# Altium footprint library PLS_PLD.PcbLib: 14 footprints
Each footprint in its own frame and in the unit in brackets; x right, y up, seen from the top. Pads: shape width x height; smd on the part's side, far side on the other; paste and mask are expansions set on the pad; w line width, h text height; cw(c..) or ccw(c..) is an arc to the next point about the centre after c.
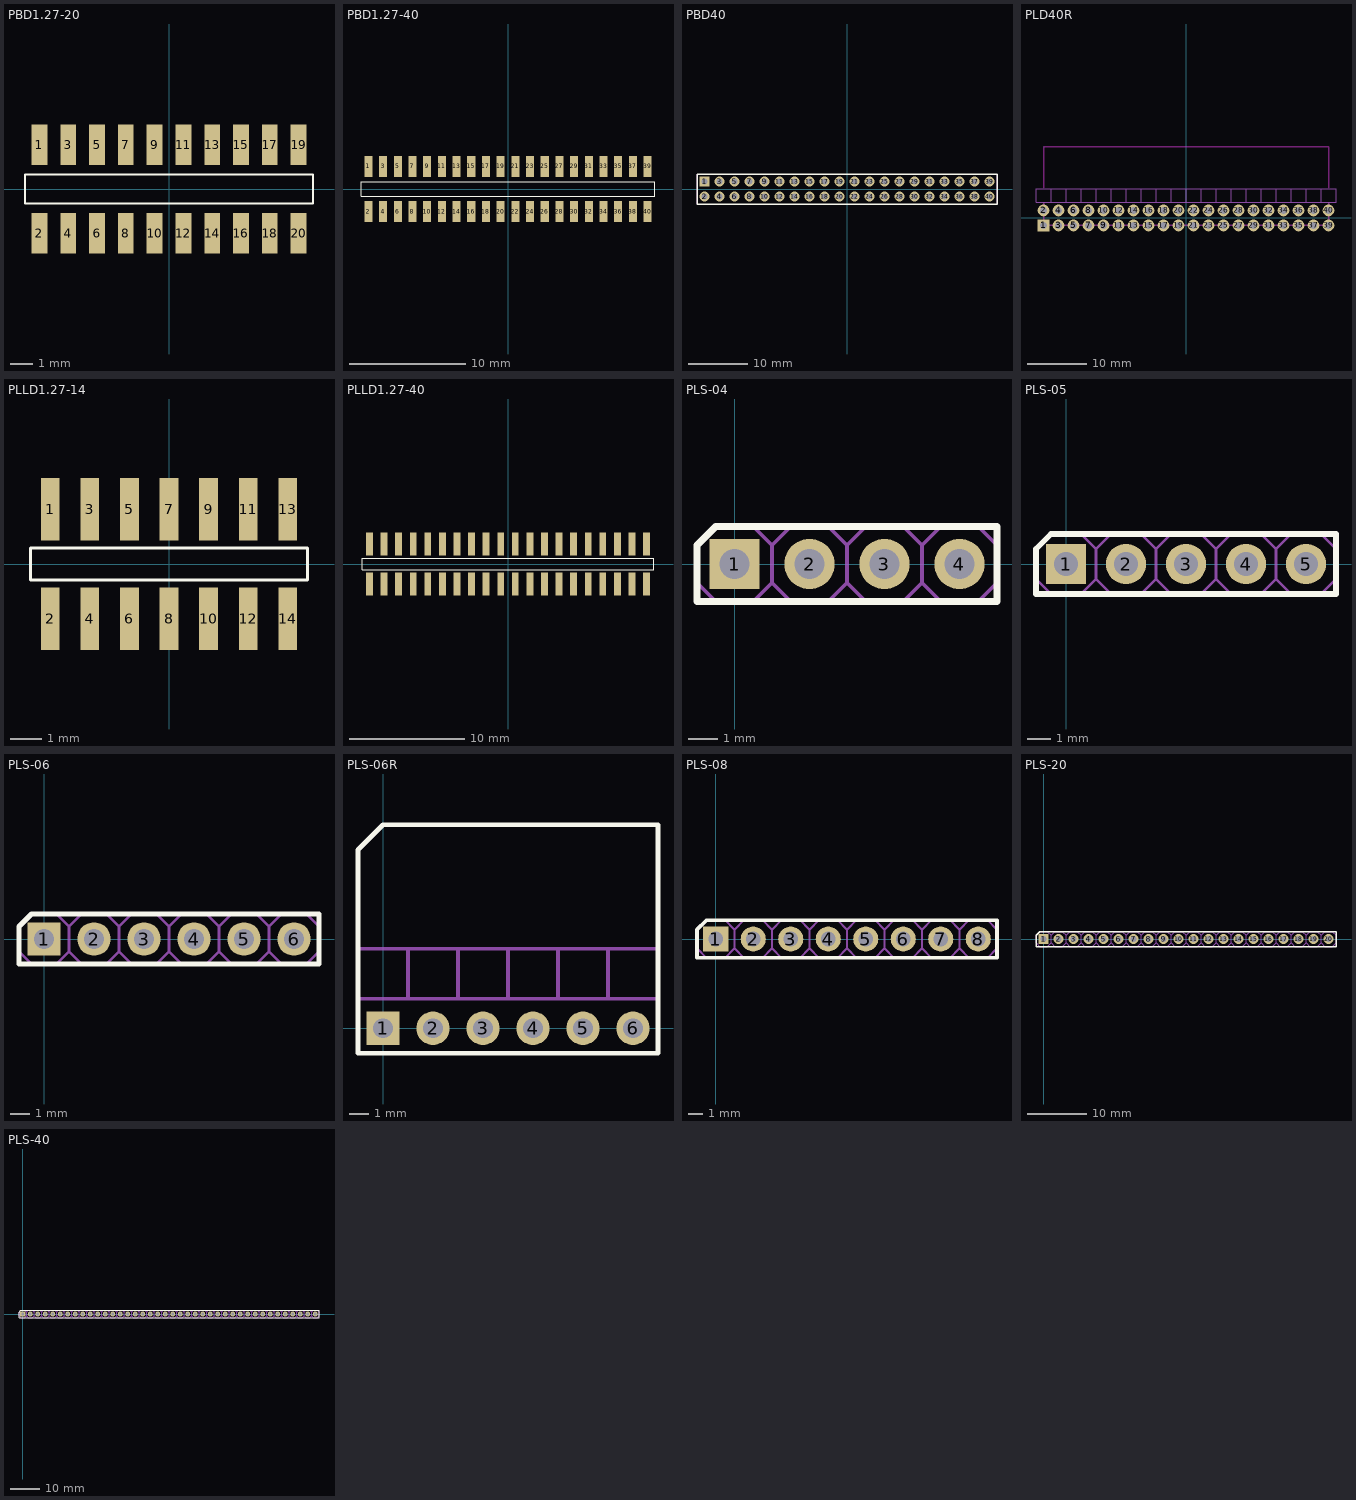
[diagram p0: the footprints below, top view; thin cyan lines are the x and y axes]

## PBD1.27-20 [mm] "PBD1.27-40"
pads (20):
  rect 0.7x1.8 smd: 1(-5.715,1.95) 2(-5.715,-1.95) 3(-4.445,1.95) 4(-4.445,-1.95) 5(-3.175,1.95) 6(-3.175,-1.95) 7(-1.905,1.95) 8(-1.905,-1.95) 9(-0.635,1.95) 10(-0.635,-1.95) 11(0.635,1.95) 12(0.635,-1.95) 13(1.905,1.95) 14(1.905,-1.95) 15(3.175,1.95) 16(3.175,-1.95) 17(4.445,1.95) 18(4.445,-1.95) 19(5.715,1.95) 20(5.715,-1.95)
Top Overlay:
  lines w0.1: -6.35,-0.635 6.35,-0.635 6.35,0.635 -6.35,0.635 -6.35,-0.635
3D body "User Library-PBD1_27-xx-S (2).step": height 4.51, standoff 0.01, extent -6.35,-2.5 6.35,2.5

## PBD1.27-40 [mm] "PBD1.27-40"
pads (40):
  rect 0.7x1.8 smd: 1(-12.065,1.95) 2(-12.065,-1.95) 3(-10.795,1.95) 4(-10.795,-1.95) 5(-9.525,1.95) 6(-9.525,-1.95) 7(-8.255,1.95) 8(-8.255,-1.95) 9(-6.985,1.95) 10(-6.985,-1.95) 11(-5.715,1.95) 12(-5.715,-1.95) 13(-4.445,1.95) 14(-4.445,-1.95) 15(-3.175,1.95) 16(-3.175,-1.95) 17(-1.905,1.95) 18(-1.905,-1.95) 19(-0.635,1.95) 20(-0.635,-1.95) 21(0.635,1.95) 22(0.635,-1.95) 23(1.905,1.95) 24(1.905,-1.95) 25(3.175,1.95) 26(3.175,-1.95) 27(4.445,1.95) 28(4.445,-1.95) 29(5.715,1.95) 30(5.715,-1.95) 31(6.985,1.95) 32(6.985,-1.95) 33(8.255,1.95) 34(8.255,-1.95) 35(9.525,1.95) 36(9.525,-1.95) 37(10.795,1.95) 38(10.795,-1.95) 39(12.065,1.95) 40(12.065,-1.95)
Top Overlay:
  lines w0.1: -12.7,-0.635 -12.7,0.635 12.7,0.635 12.7,-0.635 -12.7,-0.635
3D body "User Library-PBD1_27-xx-S (1).step": height 4.51, standoff 0.01, extent -12.7,-2.5 12.7,2.5

## PBD40 [mm]
pads (40):
  rect 1.7x1.7 hole 1: 1(-24.13,1.27)
  round 1.7 hole 1: 2(-24.13,-1.27) 3(-21.59,1.27) 4(-21.59,-1.27) 5(-19.05,1.27) 6(-19.05,-1.27) 7(-16.51,1.27) 8(-16.51,-1.27) 9(-13.97,1.27) 10(-13.97,-1.27) 11(-11.43,1.27) 12(-11.43,-1.27) 13(-8.89,1.27) 14(-8.89,-1.27) 15(-6.35,1.27) 16(-6.35,-1.27) 17(-3.81,1.27) 18(-3.81,-1.27) 19(-1.27,1.27) 20(-1.27,-1.27) 21(1.27,1.27) 22(1.27,-1.27) 23(3.81,1.27) 24(3.81,-1.27) 25(6.35,1.27) 26(6.35,-1.27) 27(8.89,1.27) 28(8.89,-1.27) 29(11.43,1.27) 30(11.43,-1.27) 31(13.97,1.27) 32(13.97,-1.27) 33(16.51,1.27) 34(16.51,-1.27) 35(19.05,1.27) 36(19.05,-1.27) 37(21.59,1.27) 38(21.59,-1.27) 39(24.13,1.27) 40(24.13,-1.27)
Top Overlay:
  lines w0.25: -25.4,-2.54 -25.4,2.54 25.4,2.54 25.4,-2.54 -25.4,-2.54
Mechanical 1:
  lines w0.13: -25.4,-2.54 25.4,-2.54 25.4,2.54 -25.4,2.54 -25.4,-2.54
  text "39" at 25.471,0.271 h1.22
  text "1" at -27.183,0.271 h1.22
  text "40" at 25.414,-2.269 h1.22
  text "2" at -27.326,-2.383 h1.22

## PCBComponent_1 [mm]

## PLD40R [mm]
pads (40):
  rect 2x2 hole 1.2: 1(-24.13,-1.27)
  round 2 hole 1.2: 2(-24.13,1.27) 3(-21.59,-1.27) 4(-21.59,1.27) 5(-19.05,-1.27) 6(-19.05,1.27) 7(-16.51,-1.27) 8(-16.51,1.27) 9(-13.97,-1.27) 10(-13.97,1.27) 11(-11.43,-1.27) 12(-11.43,1.27) 13(-8.89,-1.27) 14(-8.89,1.27) 15(-6.35,-1.27) 16(-6.35,1.27) 17(-3.81,-1.27) 18(-3.81,1.27) 19(-1.27,-1.27) 20(-1.27,1.27) 21(1.27,-1.27) 22(1.27,1.27) 23(3.81,-1.27) 24(3.81,1.27) 25(6.35,-1.27) 26(6.35,1.27) 27(8.89,-1.27) 28(8.89,1.27) 29(11.43,-1.27) 30(11.43,1.27) 31(13.97,-1.27) 32(13.97,1.27) 33(16.51,-1.27) 34(16.51,1.27) 35(19.05,-1.27) 36(19.05,1.27) 37(21.59,-1.27) 38(21.59,1.27) 39(24.13,-1.27) 40(24.13,1.27)
Top Layer keep-out:
  lines w0.254: -24.13,2.54 -24.13,-1.27 24.13,-1.27 24.13,2.54 ; -24.13,5.08 -24.13,12.065 24.13,12.065 24.13,5.08
Mechanical 1:
  lines w0.13: -22.86,2.67 -22.86,4.95 ; -20.32,2.67 -20.32,4.95 ; -17.78,2.67 -17.78,4.95 ; -15.24,2.67 -15.24,4.95 ; -12.7,2.67 -12.7,4.95 ; -10.16,2.67 -10.16,4.95 ; -7.62,2.67 -7.62,4.95 ; -5.08,2.67 -5.08,4.95 ; -2.54,2.67 -2.54,4.95 ; 0,2.67 0,4.95 ; 2.54,2.67 2.54,4.95 ; 5.08,2.67 5.08,4.95 ; 7.62,2.67 7.62,4.95 ; 10.16,2.67 10.16,4.95 ; 12.7,2.67 12.7,4.95 ; 15.24,2.67 15.24,4.95 ; 17.78,2.67 17.78,4.95 ; 20.32,2.67 20.32,4.95 ; 22.86,2.67 22.86,4.95 ; -25.4,2.67 -25.4,4.95 25.4,4.95 25.4,2.67 -25.4,2.67
  text "40" at 25.414,0.271 h1.22
  text "39" at 25.471,-2.269 h1.22
  text "2" at -27.326,0.157 h1.22
  text "1" at -27.183,-2.269 h1.22

## PLLD1.27-14 [mm] "PBD1.27-40"
pads (14):
  rect 0.6x2 smd: 1(-3.81,1.75) 2(-3.81,-1.75) 3(-2.54,1.75) 4(-2.54,-1.75) 5(-1.27,1.75) 6(-1.27,-1.75) 7(0,1.75) 8(0,-1.75) 9(1.27,1.75) 10(1.27,-1.75) 11(2.54,1.75) 12(2.54,-1.75) 13(3.81,1.75) 14(3.81,-1.75)
Top Overlay:
  lines w0.1: -4.445,-0.508 4.445,-0.508 4.445,0.508 -4.445,0.508 -4.445,-0.508
3D body "User Library-PLLD1_27-xx-S (1).step": height 3.91, standoff 0.01, extent -4.445,-2.5 4.445,2.5

## PLLD1.27-40 [mm] "PBD1.27-40"
pads (40):
  rect 0.6x2 smd: 1(-12.065,1.75) 2(-12.065,-1.75) 3(-10.795,1.75) 4(-10.795,-1.75) 5(-9.525,1.75) 6(-9.525,-1.75) 7(-8.255,1.75) 8(-8.255,-1.75) 9(-6.985,1.75) 10(-6.985,-1.75) 11(-5.715,1.75) 12(-5.715,-1.75) 13(-4.445,1.75) 14(-4.445,-1.75) 15(-3.175,1.75) 16(-3.175,-1.75) 17(-1.905,1.75) 18(-1.905,-1.75) 19(-0.635,1.75) 20(-0.635,-1.75) 21(0.635,1.75) 22(0.635,-1.75) 23(1.905,1.75) 24(1.905,-1.75) 25(3.175,1.75) 26(3.175,-1.75) 27(4.445,1.75) 28(4.445,-1.75) 29(5.715,1.75) 30(5.715,-1.75) 31(6.985,1.75) 32(6.985,-1.75) 33(8.255,1.75) 34(8.255,-1.75) 35(9.525,1.75) 36(9.525,-1.75) 37(10.795,1.75) 38(10.795,-1.75) 39(12.065,1.75) 40(12.065,-1.75)
Top Overlay:
  lines w0.1: -12.7,-0.508 -12.7,0.508 12.7,0.508 12.7,-0.508 -12.7,-0.508
3D body "User Library-PLLD1_27-xx-S.step": height 3.91, standoff 0.01, extent -12.7,-2.5 12.7,2.5

## PLS-04 [mm]
pads (4):
  rect 1.7x1.7 hole 1: 1(0,0)
  round 1.7 hole 1: 2(2.54,0) 3(5.08,0) 4(7.62,0)
Top Overlay:
  lines w0.25: -1.27,-1.27 -0.635,-1.27 8.89,-1.27 8.89,1.27 -0.635,1.27 -1.27,0.635 -1.27,-1.27
Mechanical 1:
  lines w0.13: 1.27,-0.635 1.905,-1.27 3.175,-1.27 3.81,-0.635 ; 1.27,-0.635 0.635,-1.27 -0.635,-1.27 -1.27,-0.635 -1.27,0.635 -0.635,1.27 0.635,1.27 1.27,0.635 ; 1.27,-0.635 1.27,0.635 ; 1.27,0.635 1.905,1.27 3.175,1.27 3.81,0.635 ; 3.81,-0.635 4.445,-1.27 5.715,-1.27 6.35,-0.635 ; 3.81,-0.635 3.81,0.635 ; 3.81,0.635 4.445,1.27 5.715,1.27 6.35,0.635 ; 6.35,-0.635 6.35,0.635 ; 6.35,-0.635 6.985,-1.27 8.255,-1.27 8.89,-0.635 8.89,0.635 8.255,1.27 6.985,1.27 6.35,0.635

## PLS-05 [mm]
pads (5):
  rect 1.7x1.7 hole 1: 1(0,0)
  round 1.7 hole 1: 2(2.54,0) 3(5.08,0) 4(7.62,0) 5(10.16,0)
Top Overlay:
  lines w0.25: -1.27,-1.27 -0.635,-1.27 11.43,-1.27 11.43,1.27 -0.635,1.27 -1.27,0.635 -1.27,-1.27
Mechanical 1:
  lines w0.13: 1.27,-0.635 1.905,-1.27 3.175,-1.27 3.81,-0.635 ; 1.27,-0.635 0.635,-1.27 -0.635,-1.27 -1.27,-0.635 -1.27,0.635 -0.635,1.27 0.635,1.27 1.27,0.635 ; 1.27,-0.635 1.27,0.635 ; 1.27,0.635 1.905,1.27 3.175,1.27 3.81,0.635 ; 3.81,-0.635 4.445,-1.27 5.715,-1.27 6.35,-0.635 ; 3.81,-0.635 3.81,0.635 ; 3.81,0.635 4.445,1.27 5.715,1.27 6.35,0.635 ; 6.35,-0.635 6.35,0.635 ; 6.35,-0.635 6.985,-1.27 8.255,-1.27 8.89,-0.635 ; 6.35,0.635 6.985,1.27 8.255,1.27 8.89,0.635 ; 8.89,-0.635 8.89,0.635 ; 8.89,-0.635 9.525,-1.27 10.795,-1.27 11.43,-0.635 11.43,0.635 10.795,1.27 9.525,1.27 8.89,0.635

## PLS-06 [mm]
height 8.54
pads (6):
  rect 1.7x1.7 hole 1: 1(0,0)
  round 1.7 hole 1: 2(2.54,0) 3(5.08,0) 4(7.62,0) 5(10.16,0) 6(12.7,0)
Top Overlay:
  lines w0.25: -1.27,-1.27 -1.27,0.635 -0.635,1.27 13.97,1.27 13.97,-1.27 -0.635,-1.27 -1.27,-1.27
Mechanical 1:
  lines w0.13: 1.27,-0.635 1.27,0.635 ; 1.27,-0.635 0.635,-1.27 -0.635,-1.27 -1.27,-0.635 -1.27,0.635 -0.635,1.27 0.635,1.27 1.27,0.635 ; 1.27,-0.635 1.905,-1.27 3.175,-1.27 3.81,-0.635 ; 1.27,0.635 1.905,1.27 3.175,1.27 3.81,0.635 ; 3.81,-0.635 3.81,0.635 ; 3.81,-0.635 4.445,-1.27 5.715,-1.27 6.35,-0.635 ; 3.81,0.635 4.445,1.27 5.715,1.27 6.35,0.635 ; 6.35,-0.635 6.985,-1.27 8.255,-1.27 8.89,-0.635 ; 6.35,-0.635 6.35,0.635 ; 6.35,0.635 6.985,1.27 8.255,1.27 8.89,0.635 ; 8.89,-0.635 9.525,-1.27 10.795,-1.27 11.43,-0.635 ; 8.89,-0.635 8.89,0.635 ; 8.89,0.635 9.525,1.27 10.795,1.27 11.43,0.635 ; 11.43,-0.635 11.43,0.635 ; 11.43,-0.635 12.065,-1.27 13.335,-1.27 13.97,-0.635 13.97,0.635 13.335,1.27 12.065,1.27 11.43,0.635
  text ".Designator" at 0,1.905 h1.5
  text ".Comment" at 0,-2.54 h1.5

## PLS-06R [mm]
height 2.54
pads (6):
  rect 1.7x1.7 hole 1: 1(0,0)
  round 1.7 hole 1: 2(2.54,0) 3(5.08,0) 4(7.62,0) 5(10.16,0) 6(12.7,0)
Top Overlay:
  lines w0.25: -1.27,-1.27 -0.635,-1.27 13.97,-1.27 13.97,10.34 0,10.34 -1.27,9.07 -1.27,-1.27
Mechanical 1:
  lines w0.2: 1.27,1.5 1.27,4.04 ; 3.81,1.5 3.81,4.04 ; 6.35,1.5 6.35,4.04 ; 8.89,1.5 8.89,4.04 ; 11.43,1.5 11.43,4.04 ; -1.27,1.5 -1.27,4.04 13.97,4.04 13.97,1.5 -1.27,1.5
  text ".Comment" at 0,-2.54 h1.5
  text ".Designator" at 0,4.445 h1.5

## PLS-08 [mm]
pads (8):
  rect 1.7x1.7 hole 1: 1(0,0)
  round 1.7 hole 1: 2(2.54,0) 3(5.08,0) 4(7.62,0) 5(10.16,0) 6(12.7,0) 7(15.24,0) 8(17.78,0)
Top Overlay:
  lines w0.25: -1.27,-1.27 -0.635,-1.27 19.05,-1.27 19.05,1.27 -0.635,1.27 -1.27,0.635 -1.27,-1.27
Mechanical 1:
  lines w0.13: 1.27,-0.635 1.905,-1.27 3.175,-1.27 3.81,-0.635 ; 1.27,-0.635 0.635,-1.27 -0.635,-1.27 -1.27,-0.635 -1.27,0.635 -0.635,1.27 0.635,1.27 1.27,0.635 ; 1.27,-0.635 1.27,0.635 ; 1.27,0.635 1.905,1.27 3.175,1.27 3.81,0.635 ; 3.81,-0.635 4.445,-1.27 5.715,-1.27 6.35,-0.635 ; 3.81,-0.635 3.81,0.635 ; 3.81,0.635 4.445,1.27 5.715,1.27 6.35,0.635 ; 6.35,-0.635 6.35,0.635 ; 6.35,-0.635 6.985,-1.27 8.255,-1.27 8.89,-0.635 ; 6.35,0.635 6.985,1.27 8.255,1.27 8.89,0.635 ; 8.89,-0.635 8.89,0.635 ; 8.89,-0.635 9.525,-1.27 10.795,-1.27 11.43,-0.635 ; 8.89,0.635 9.525,1.27 10.795,1.27 11.43,0.635 ; 11.43,-0.635 11.43,0.635 ; 11.43,-0.635 12.065,-1.27 13.335,-1.27 13.97,-0.635 ; 11.43,0.635 12.065,1.27 13.335,1.27 13.97,0.635 ; 13.97,-0.635 13.97,0.635 ; 13.97,-0.635 14.605,-1.27 15.875,-1.27 16.51,-0.635 ; 13.97,0.635 14.605,1.27 15.875,1.27 16.51,0.635 ; 16.51,-0.635 17.145,-1.27 18.415,-1.27 19.05,-0.635 19.05,0.635 18.415,1.27 17.145,1.27 16.51,0.635 ; 16.51,-0.635 16.51,0.635

## PLS-20 [mm]
pads (20):
  rect 1.7x1.7 hole 1: 1(0,0)
  round 1.7 hole 1: 2(2.54,0) 3(5.08,0) 4(7.62,0) 5(10.16,0) 6(12.7,0) 7(15.24,0) 8(17.78,0) 9(20.32,0) 10(22.86,0) 11(25.4,0) 12(27.94,0) 13(30.48,0) 14(33.02,0) 15(35.56,0) 16(38.1,0) 17(40.64,0) 18(43.18,0) 19(45.72,0) 20(48.26,0)
Top Overlay:
  lines w0.25: -1.27,-1.27 -1.27,0.635 -0.635,1.27 49.53,1.27 49.53,-1.27 -0.635,-1.27 -1.27,-1.27
Mechanical 1:
  lines w0.13: 1.27,-0.635 1.27,0.635 ; 1.27,-0.635 0.635,-1.27 -0.635,-1.27 -1.27,-0.635 -1.27,0.635 -0.635,1.27 0.635,1.27 1.27,0.635 ; 1.27,-0.635 1.905,-1.27 3.175,-1.27 3.81,-0.635 ; 1.27,0.635 1.905,1.27 3.175,1.27 3.81,0.635 ; 3.81,-0.635 3.81,0.635 ; 3.81,-0.635 4.445,-1.27 5.715,-1.27 6.35,-0.635 ; 3.81,0.635 4.445,1.27 5.715,1.27 6.35,0.635 ; 6.35,-0.635 6.985,-1.27 8.255,-1.27 8.89,-0.635 ; 6.35,-0.635 6.35,0.635 ; 6.35,0.635 6.985,1.27 8.255,1.27 8.89,0.635 ; 8.89,-0.635 9.525,-1.27 10.795,-1.27 11.43,-0.635 ; 8.89,-0.635 8.89,0.635 ; 8.89,0.635 9.525,1.27 10.795,1.27 11.43,0.635 ; 11.43,-0.635 12.065,-1.27 13.335,-1.27 13.97,-0.635 ; 11.43,-0.635 11.43,0.635 ; 11.43,0.635 12.065,1.27 13.335,1.27 13.97,0.635 ; 13.97,-0.635 14.605,-1.27 15.875,-1.27 16.51,-0.635 ; 13.97,-0.635 13.97,0.635 ; 13.97,0.635 14.605,1.27 15.875,1.27 16.51,0.635 ; 16.51,-0.635 16.51,0.635 ; 16.51,-0.635 17.145,-1.27 18.415,-1.27 19.05,-0.635 ; 16.51,0.635 17.145,1.27 18.415,1.27 19.05,0.635 ; 19.05,-0.635 19.685,-1.27 20.955,-1.27 21.59,-0.635 ; 19.05,-0.635 19.05,0.635 ; 19.05,0.635 19.685,1.27 20.955,1.27 21.59,0.635 ; 21.59,-0.635 22.225,-1.27 23.495,-1.27 24.13,-0.635 ; 21.59,-0.635 21.59,0.635 ; 21.59,0.635 22.225,1.27 23.495,1.27 24.13,0.635 ; 24.13,-0.635 24.765,-1.27 26.035,-1.27 26.67,-0.635 ; 24.13,-0.635 24.13,0.635 ; 24.13,0.635 24.765,1.27 26.035,1.27 26.67,0.635 ; 26.67,-0.635 27.305,-1.27 28.575,-1.27 29.21,-0.635 ; 26.67,-0.635 26.67,0.635 ; 26.67,0.635 27.305,1.27 28.575,1.27 29.21,0.635 ; 29.21,-0.635 29.845,-1.27 31.115,-1.27 31.75,-0.635 ; 29.21,-0.635 29.21,0.635 ; 29.21,0.635 29.845,1.27 31.115,1.27 31.75,0.635 ; 31.75,-0.635 32.385,-1.27 33.655,-1.27 34.29,-0.635 ; 31.75,-0.635 31.75,0.635 ; 31.75,0.635 32.385,1.27 33.655,1.27 34.29,0.635 ; 34.29,-0.635 34.925,-1.27 36.195,-1.27 36.83,-0.635 ; 34.29,-0.635 34.29,0.635 ; 34.29,0.635 34.925,1.27 36.195,1.27 36.83,0.635 ; 36.83,-0.635 37.465,-1.27 38.735,-1.27 39.37,-0.635 ; 36.83,-0.635 36.83,0.635 ; 36.83,0.635 37.465,1.27 38.735,1.27 39.37,0.635 ; 39.37,-0.635 40.005,-1.27 41.275,-1.27 41.91,-0.635 ; 39.37,-0.635 39.37,0.635 ; 39.37,0.635 40.005,1.27 41.275,1.27 41.91,0.635 ; 41.91,-0.635 42.545,-1.27 43.815,-1.27 44.45,-0.635 ; 41.91,-0.635 41.91,0.635 ; 41.91,0.635 42.545,1.27 43.815,1.27 44.45,0.635 ; 44.45,-0.635 45.085,-1.27 46.355,-1.27 46.99,-0.635 ; 44.45,-0.635 44.45,0.635 ; 44.45,0.635 45.085,1.27 46.355,1.27 46.99,0.635 ; 46.99,-0.635 47.625,-1.27 48.895,-1.27 49.53,-0.635 49.53,0.635 48.895,1.27 47.625,1.27 46.99,0.635 ; 46.99,-0.635 46.99,0.635

## PLS-40 [mm]
pads (40):
  rect 1.7x1.7 hole 1: 1(0,0)
  round 1.7 hole 1: 2(2.54,0) 3(5.08,0) 4(7.62,0) 5(10.16,0) 6(12.7,0) 7(15.24,0) 8(17.78,0) 9(20.32,0) 10(22.86,0) 11(25.4,0) 12(27.94,0) 13(30.48,0) 14(33.02,0) 15(35.56,0) 16(38.1,0) 17(40.64,0) 18(43.18,0) 19(45.72,0) 20(48.26,0) 21(50.8,0) 22(53.34,0) 23(55.88,0) 24(58.42,0) 25(60.96,0) 26(63.5,0) 27(66.04,0) 28(68.58,0) 29(71.12,0) 30(73.66,0) 31(76.2,0) 32(78.74,0) 33(81.28,0) 34(83.82,0) 35(86.36,0) 36(88.9,0) 37(91.44,0) 38(93.98,0) 39(96.52,0) 40(99.06,0)
Top Overlay:
  lines w0.25: -1.27,-1.27 -1.27,0.635 -0.635,1.27 100.33,1.27 100.33,-1.27 -0.635,-1.27 -1.27,-1.27
Mechanical 1:
  drawing of 281 lines, arcs and shapes, not listed